# EAGLE library part LAN8710A (library ic-SMSC)
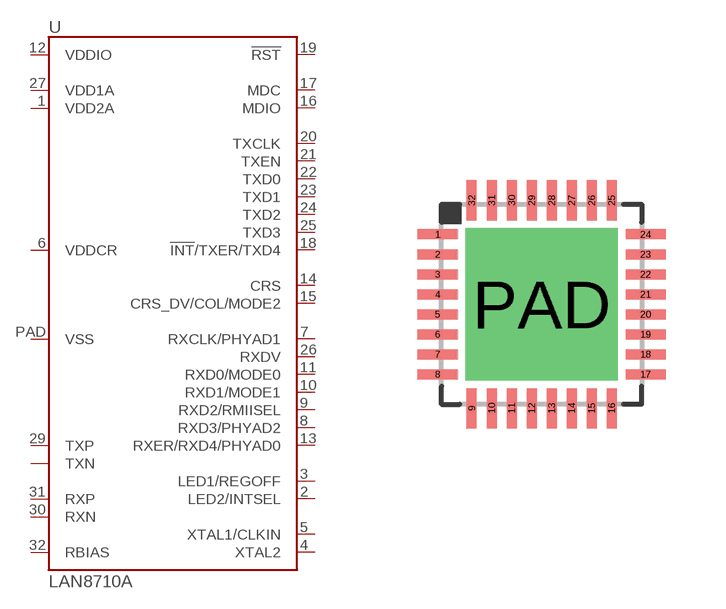
[diagram p1: symbol with the pads of QFN32-0.5-PAD; footprint QFN32-0.5-PAD]

Designator prefix U

## LAN8710A  [QFN32-0.5-PAD]
1  VDD2A
2  LED2/INTSEL
3  LED1/REGOFF
4  XTAL2
5  XTAL1/CLKIN
6  VDDCR
7  RXCLK/PHYAD1
8  RXD3/PHYAD2
9  RXD2/RMIISEL
10  RXD1/MODE1
11  RXD0/MODE0
12  VDDIO
13  RXER/RXD4/PHYAD0
14  CRS
15  CRS_DV/COL/MODE2
16  MDIO
17  MDC
18  !INT!/TXER/TXD4
19  !RST
20  TXCLK
21  TXEN
22  TXD0
23  TXD1
24  TXD2
25  TXD3
26  RXDV
27  VDD1A
28  TXN
29  TXP
30  RXN
31  RXP
32  RBIAS
PAD  VSS

## Footprint QFN32-0.5-PAD (pad centres in mm)
smd 1 x 0.25: 1 -2.6,1.75; 2 -2.6,1.25; 3 -2.6,0.75; 4 -2.6,0.25; 5 -2.6,-0.25; 6 -2.6,-0.75; 7 -2.6,-1.25; 8 -2.6,-1.75; 17 2.6,-1.75; 18 2.6,-1.25; 19 2.6,-0.75; 20 2.6,-0.25; 21 2.6,0.25; 22 2.6,0.75; 23 2.6,1.25; 24 2.6,1.75
smd 0.25 x 1: 9 -1.75,-2.6; 10 -1.25,-2.6; 11 -0.75,-2.6; 12 -0.25,-2.6; 13 0.25,-2.6; 14 0.75,-2.6; 15 1.25,-2.6; 16 1.75,-2.6; 25 1.75,2.6; 26 1.25,2.6; 27 0.75,2.6; 28 0.25,2.6; 29 -0.25,2.6; 30 -0.75,2.6; 31 -1.25,2.6; 32 -1.75,2.6
drill 2.8 pad 3.5 square: PAD 0,0